# EAGLE library part TPS54360 (library we-power)
TI TPS54360 Step-Down (100kHz-2.5MHz, 3.5A, 4.5-60V input)
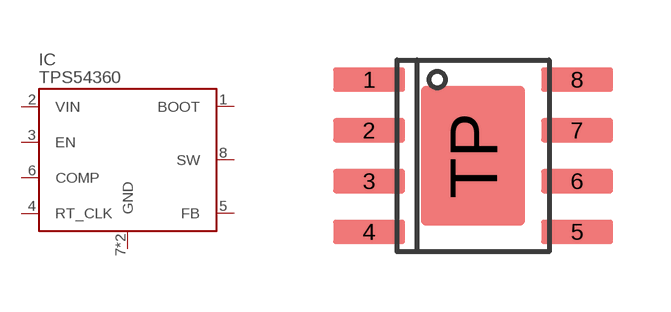
[diagram p8: symbol with the pads of SO08-PAD; footprint SO08-PAD]

Designator prefix IC

## TPS54360  [SO08-PAD]
1  BOOT  pas
2  VIN  pwr
3  EN  pas
4  RT_CLK  pas
5  FB  pas
6  COMP  pas
7  GND  pwr
8  SW  pas
TP  GND  pwr

## Footprint SO08-PAD (pad centres in mm)
smd 1.8 x 0.6: 1 -2.6,1.905; 2 -2.6,0.635; 3 -2.6,-0.635; 4 -2.6,-1.905; 5 2.6,-1.905; 6 2.6,-0.635; 7 2.6,0.635; 8 2.6,1.905
smd 2.6 x 3.5: TP 0,0